# EAGLE library part ST26C31BTR (library tiva)
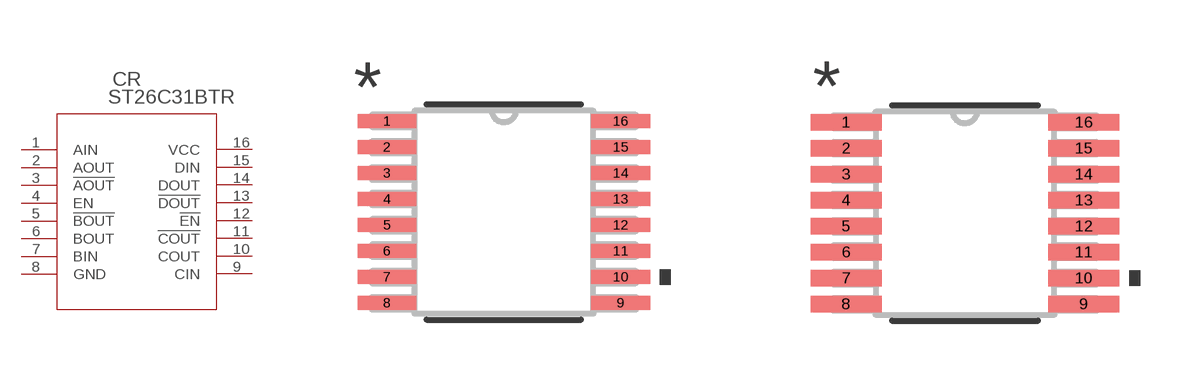
[diagram p1: symbol with the pads of TSSOP16; footprints TSSOP16, TSSOP16-M]

Designator prefix CR

## ST26C31BTR (MANUFACTURER_PART_NUMBER: ST26C31BTR; VENDOR: STMicroelectronics)  [TSSOP16]
1  AIN  in
2  AOUT  out
3  !AOUT  out
4  EN  pas
5  !BOUT  out
6  BOUT  out
7  BIN  in
8  GND  pwr
9  CIN  in
10  COUT  out
11  !COUT  out
12  !EN  pas
13  !DOUT  out
14  DOUT  out
15  DIN  in
16  VCC  pwr

## ST26C31BTRTSSOP16-M (MANUFACTURER_PART_NUMBER: ST26C31BTR; VENDOR: STMicroelectronics)  [TSSOP16-M]
Pads as for TSSOP16

## ST26C31BTRTSSOP16-L (MANUFACTURER_PART_NUMBER: ST26C31BTR; VENDOR: STMicroelectronics)  [TSSOP16-L]
Pads as for TSSOP16

## Footprint TSSOP16 (pad centres in mm)
smd 1.473 x 0.356: 1 -2.921,2.275; 2 -2.921,1.625; 3 -2.921,0.975; 4 -2.921,0.325; 5 -2.921,-0.325; 6 -2.921,-0.975; 7 -2.921,-1.625; 8 -2.921,-2.275; 9 2.921,-2.275; 10 2.921,-1.625; 11 2.921,-0.975; 12 2.921,-0.325; 13 2.921,0.325; 14 2.921,0.975; 15 2.921,1.625; 16 2.921,2.275

## Footprint TSSOP16-M (pad centres in mm)
smd 1.778 x 0.406: 1 -2.972,2.275; 2 -2.972,1.625; 3 -2.972,0.975; 4 -2.972,0.325; 5 -2.972,-0.325; 6 -2.972,-0.975; 7 -2.972,-1.625; 8 -2.972,-2.275; 9 2.972,-2.275; 10 2.972,-1.625; 11 2.972,-0.975; 12 2.972,-0.325; 13 2.972,0.325; 14 2.972,0.975; 15 2.972,1.625; 16 2.972,2.275

## Footprint TSSOP16-L (pad centres in mm)
smd 1.168 x 0.305: 1 -2.87,2.275; 2 -2.87,1.625; 3 -2.87,0.975; 4 -2.87,0.325; 5 -2.87,-0.325; 6 -2.87,-0.975; 7 -2.87,-1.625; 8 -2.87,-2.275; 9 2.87,-2.275; 10 2.87,-1.625; 11 2.87,-0.975; 12 2.87,-0.325; 13 2.87,0.325; 14 2.87,0.975; 15 2.87,1.625; 16 2.87,2.275